# Altium schematic symbol library Schlib.SchLib: 17 symbols
Pins are listed as number, name and electrical type; pins without a type are passive.

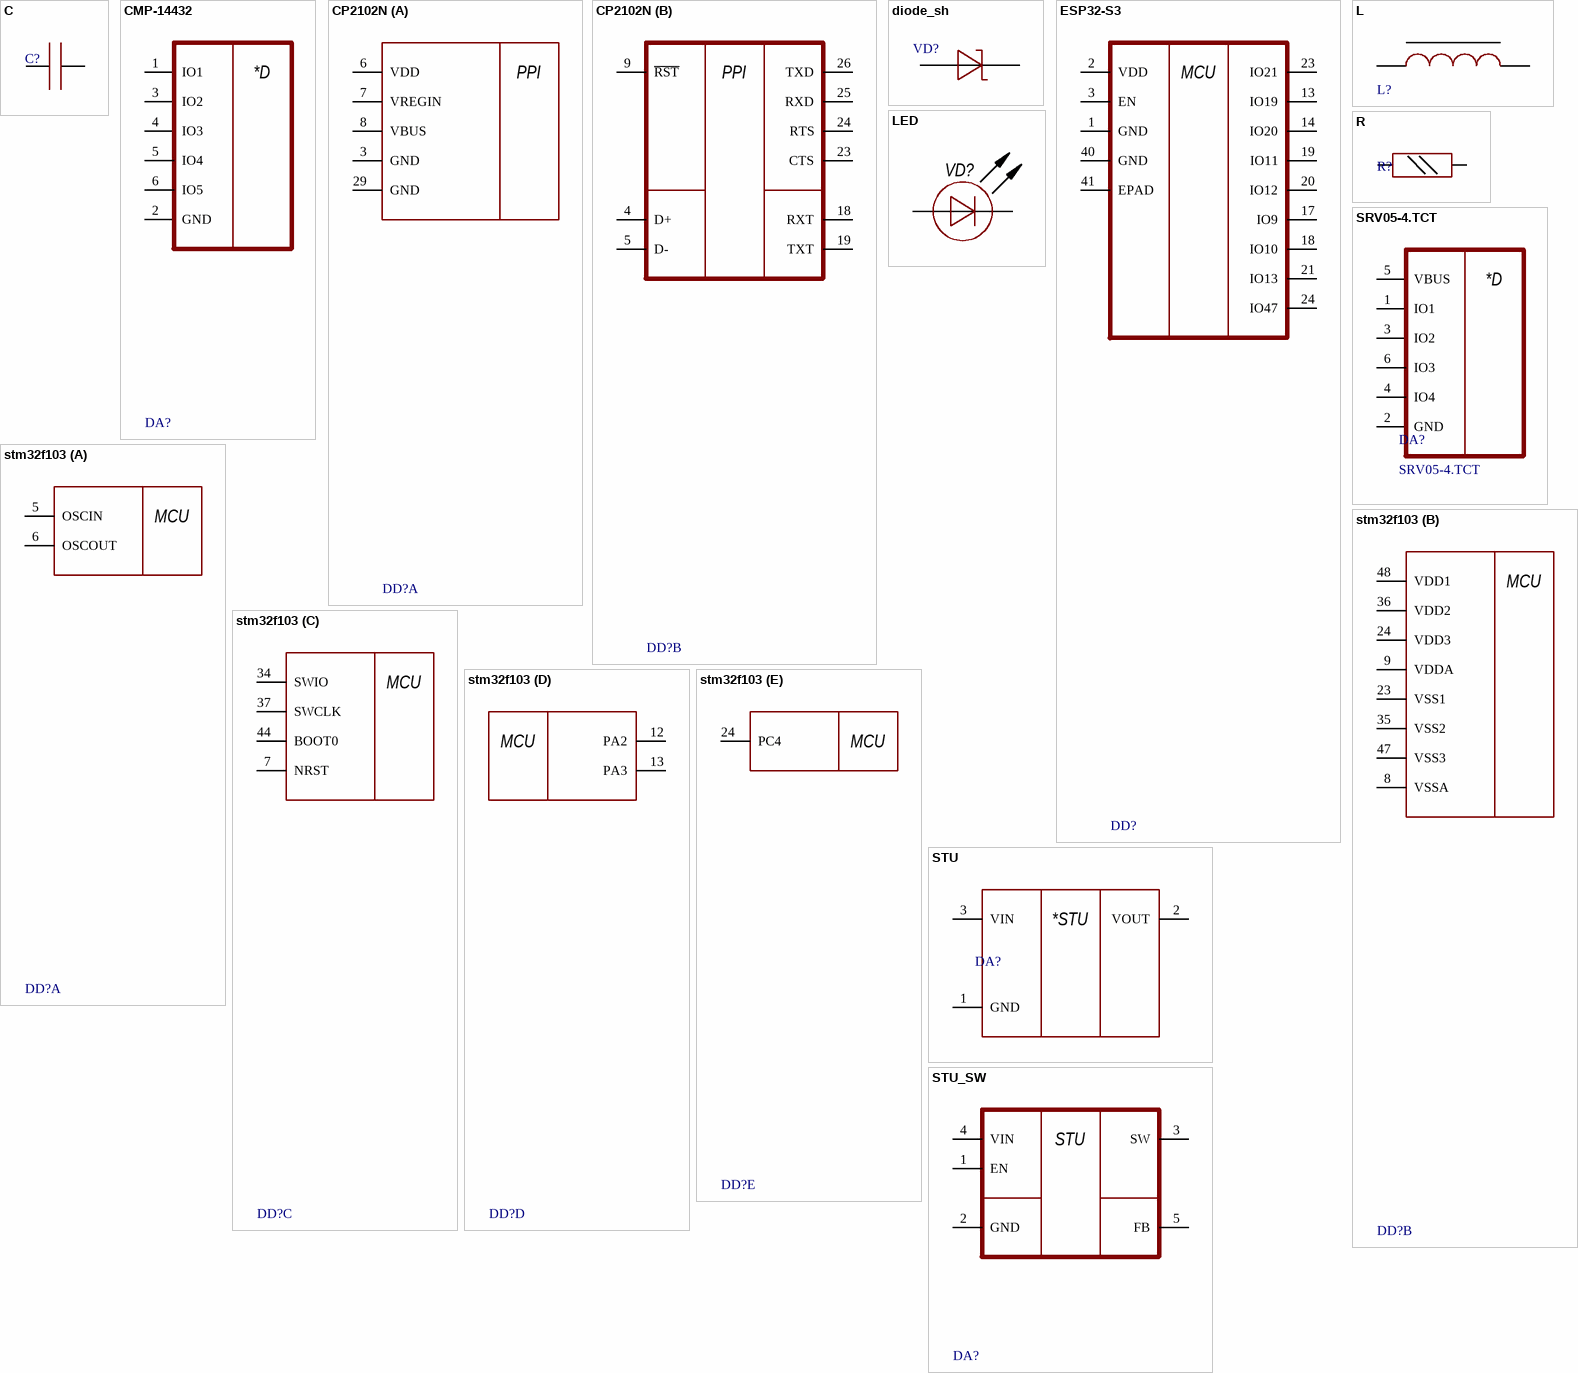
[diagram p0: symbols C to STU_SW]

## C
designator C?, comment 04023J0R9BBWTR  (value not drawn)
Manufacturer: AVX Interconnect / Elco; Part Number: 04023J0R9BBWTR
footprint CAP: 0603
pins: 1, 2
1 alternate drawing of the same symbol

## CMP-14432
designator DA?, comment PESD3V3L5UY,115  (value not drawn)
TVS DIODE 3.3VWM 12VC 6TSSOP; RoHS Compliant: Yes
footprint SOT23-6 (pitch 0.95 mm)
pins: 1 IO1 "VBUS", 2 GND, 3 IO2, 4 IO3, 5 IO4, 6 IO5
text: *D

## CP2102N
designator DD?, comment CP2102N-A02-GQFN28R  (value not drawn)
IC USB TO UART BRIDGE QFN28
footprint FP-CP2102N-A02-GQFN28R-IPC_C
footprint FP-CP2102N-A02-GQFN28R-IPC_B
footprint FP-CP2102N-A02-GQFN28R-IPC_A
part A pins: 3 GND (power), 6 VDD (power), 7 VREGIN (power), 8 VBUS (power), 29 GND (power)
part B pins: 4 D+ (power), 5 D- (power), 9 ~{RST} (power), 18 RXT (power), 19 TXT (power), 23 CTS (power), 24 RTS (power), 25 RXD (power), 26 TXD (power)
part A text: PPI
part B text: PPI

## diode_sh
designator VD?  (value not drawn)
footprint DIODE: SOD123
pins: 1 A, 2 C

## ESP32-S3
designator DD?, comment ESP32-WROOM-32U (16MB)  (value not drawn)
RX TXRX MODULE WIFI U.FL SMD; Sensitivity: -98dBm; Frequency: 2.5GHz; Memory Size: 536KB; Data Rate: 150Mbps; Interface: I2C; Packaging: Tape and Reel; Case/Package: SMD/SMT; Max Operating Temperature: 85°C; Mount: Surface Mount; Min Operating Temperature: -40°C
footprint XCVR_ESP32S3WROOM1N8R8
footprint XCVR_ESP32-S3-WROOM-1U-N8
pins: 1 GND (power), 2 VDD (power), 3 EN (power), 13 IO19, 14 IO20, 17 IO9, 18 IO10, 19 IO11, 20 IO12, 21 IO13, 23 IO21, 24 IO47, 40 GND (power), 41 EPAD (power)
text: MCU

## L
designator L?, comment IHLP2020CZER2R2M01  (value not drawn)
Fixed Inductors Commercial High Saturation Series 2.2uH 5.8A 29.2mΩ 20%; DC Resistance (DCR): 29.2mR; Test Frequency: 100kHz; Core Material: Metal; Self Resonant Frequency: 39MHz; Shielding: Shielded; Max DC Current: 10A; Radiation Hardening: No; Height: 3mm; Tolerance: 20%; Package Quantity: 2000; Weight: 0.007055oz; Contact Plating: Tin; Termination: SMD/SMT; Height - Seated (Max): 0.118inch; Inductance Tolerance: 20%; RMS Current (Irms): 5.8A; Lead Free: Lead Free; Width: 0.204inch; Min Operating Temperature: -55°C; Length: 5.74mm; Max Operating Temperature: 125°C; Saturation Current: 10A; Inductance: 2.2uH; Depth: 5.43mm; Current Rating: 5.8A; Case/Package: 2020; Mount: Surface Mount; Packaging: Tape and Reel; Military Standard: Not
footprint FP-IHLP-2020CZ-FP_1_905x2-MFG
pins: 1, 2

## LED
designator VD?
ValueManufacturerPartNumber: LED, Green, *, *, *, -55...+150°C; TypeDiode: LED; ColorParameter: Green; Manufacturer: *; Package: *; HelpURL: *; Temperature: -55...+150°C; Current: *; VoltageDrop: *; PartNumber: *; Color: GREEN
footprint LED: 0603B
footprint LED: 0603G
footprint LED: 0603R
footprint LED: 0603Y
pins: 1 A, 2 C

## R
designator R?, comment RC0402FR-074K7L  (value not drawn)
Manufacturer: Yageo / Phycomp; Part Number: RC0402FR-074K7L
footprint RES: 0603
pins: 1, 2
1 alternate drawing of the same symbol

## SRV05-4.TCT
designator DA?
RailClamp(R) Low Capacitance TVS Diode Array, 5 pF, 17.5 VC, -55 to 125 degC, 6-Pin SOT23, RoHS, Tape and Reel; Manufacturer: Semtech; Leakage Current (Max): 5uA; Polarity: Uni-Directional; Peak Pulse Power Dissipation: 300W; Clamping Voltage: 17.5V; Number of Elements: 1; Working Voltage: 5V; Test Current (It): 1mA; Configuration: Quad; Reverse Breakdown Voltage: 6V; Suppressor Type: DiodeArrays; Peak Pulse Current: 12A; Product Depth (mm): 1.6mm; Product Height (mm): 1.15mm; Clamping Voltage (Max): 12.5V; Rad Hardened: No; Product Length (mm): 2.9mm; Capacitance Value: 5pF; Mounting: SurfaceMount; Datasheet URL: https://datasheet.ciiva.com/8029/srv05-4-8029973.pdf; Datasheet Version: Jan-08; Packaging: TapeandReel; Package / Case: SOT-23; Operating Temp Range: -55Cto125C; Pin Count: 6; Direction Type: Uni-Directional; Operating Temperature Min Deg. C: -55C; Reverse Stand-off Voltage: 5V; Leakage Current: 5uA; Manufacturer URL: http://www.semtech.com/; Working Voltage (Max): 5V; Package Reference: SOT23-6; Package Description: 6-Pin Small Outline Transistor, Body 2.9 x 1.6 mm, Pitch 0.95 mm; Operating Temperature Max Deg. C: 125C; Operating Temperature Classification: Military; Mounting Style: SurfaceMount
footprint SOT23-6 (pitch 0.95 mm)
pins: 1 IO1, 2 GND, 3 IO2, 4 IO4, 5 VBUS, 6 IO3
text: *D

## stm32f103
designator DD?, comment stm32f103rb  (value not drawn)
RX TXRX MODULE WIFI U.FL SMD; Sensitivity: -98dBm; Frequency: 2.5GHz; Memory Size: 536KB; Data Rate: 150Mbps; Interface: I2C; Packaging: Tape and Reel; Case/Package: SMD/SMT; Max Operating Temperature: 85°C; Mount: Surface Mount; Min Operating Temperature: -40°C
part A pins: 5 OSCIN (power), 6 OSCOUT (power)
part B pins: 8 VSSA (power), 9 VDDA (power), 23 VSS1 (power), 24 VDD3 (power), 35 VSS2 (power), 36 VDD2 (power), 47 VSS3 (power), 48 VDD1 (power)
part C pins: 7 NRST (power), 34 SWIO (power), 37 SWCLK (power), 44 BOOT0 (power)
part D pins: 12 PA2 (power), 13 PA3 (power)
part E pins: 24 PC4 (power)
part A text: MCU
part B text: MCU
part C text: MCU
part D text: MCU
part E text: MCU

## STU
designator DA?, comment XC6219B332MR  (value not drawn)
LDO Voltage Regulators 1A, 3.3V
footprint FP-ams1117-IPC_A
footprint FP-ams1117-IPC_B
footprint FP-ams1117-IPC_C
pins: 1 GND (power), 2 VOUT, 3 VIN (power)
text: *STU

## STU_SW
designator DA?, comment TLV62569DBVR  (value not drawn)
IC REG BUCK ADJ 2A SOT23-5; Output Configuration: Positive; Min Output Voltage: 600mV; Max Output Voltage: 5.5V; Switching Frequency: 1.5MHz; Output Type: Adjustable; Synchronous Rectifier: Yes; Min Input Voltage: 2.5V; Output Current: 2A; Mount: Surface Mount; Min Operating Temperature: -40°C; Max Operating Temperature: 125°C; RoHS Compliant: Yes; Max Input Voltage: 5.5V; Case/Package: SOT-23-5; Packaging: Cut Tape
footprint SOT23-5 (pitch 0.95 mm)
pins: 1 EN (power), 2 GND (power), 3 SW, 4 VIN (power), 5 FB
text: STU

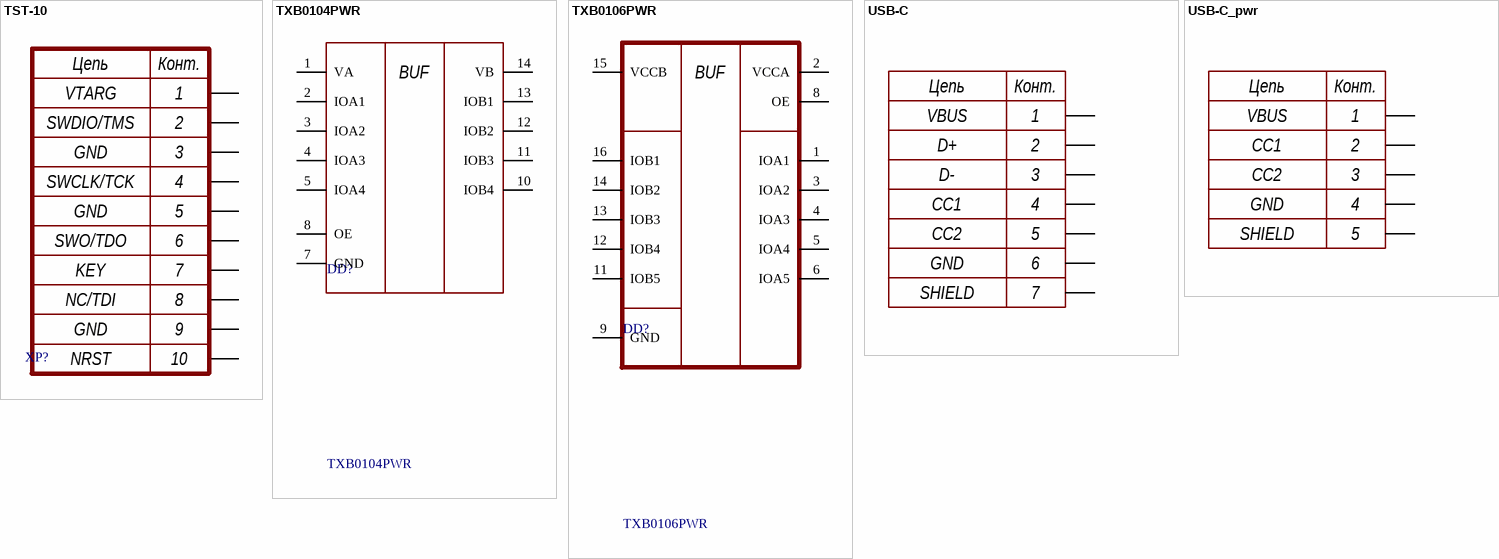
[diagram p1: symbols TST-10 to USB-C_pwr]

## TST-10
designator XP?, comment TST  (value not drawn)
footprint SAMTEC-TST-105-01-X-D
footprint FP-TSM-105-01-F-DV-MFG
pins: 1, 2, 3, 4, 5, 6, 7, 8, 9, 10
text: Цепь; Конт.; VTARG; SWDIO/TMS; GND; SWCLK/TCK; SWO/TDO; KEY; NC/TDI; NRST

## TXB0104PWR
designator DD?
NexarPartId: 1486292; Manufacturer Lifecycle Status: ACTIVE; Quiescent Current: 3.5µA; Number of Circuits: 1; Logic Function: Translator; Number of Bits: 4; Max Supply Voltage: 5.5V; Low Level Output Current: 20µA; Data Rate: 100Mbps; Nominal Supply Current: 5µA; Turn-On Delay Time: 31ns; Propagation Delay: 4ns; High Level Output Current: -20µA; Min Supply Voltage: 1.2V; Rise Time: 700ps; Max Junction Temperature (Tj): 150°C; Number of Outputs: 4; Ambient Temperature Range High: 85°C; Width: 4.4mm; Height: 1.2mm; Radiation Hardening: No; Case/Package: TSSOP; Number of Inputs: 4; Packaging: Digi-Reel®; RoHS: Compliant; Weight: 57.209338mg; Length: 5mm; REACH SVHC: No SVHC; Min Supply Voltage (DC): 1.2V; Min Operating Temperature: -40°C; Number of Channels: 4; Number of Pins: 14; Schedule B: 8542390000, 8542390000; Max Operating Temperature: 85°C; Output Current: 20µA; Thickness: 1mm; Lead Free: Lead Free; Lifecycle Status: Production; Mount: Surface Mount
footprint 14-TSOP
pins: 1 VA (power), 2 IOA1 (power), 3 IOA2 (power), 4 IOA3 (power), 5 IOA4 (power), 7 GND (power), 8 OE (power), 10 IOB4 (power), 11 IOB3 (power), 12 IOB2 (power), 13 IOB1 (power), 14 VB (power)
text: BUF

## TXB0106PWR
designator DD?
Manufacturer Lifecycle Status: ACTIVE; NexarPartId: 9437508; Quiescent Current: 3.5µA; Number of Channels: 6; Data Rate: 100Mbps; Max Supply Voltage: 5.5V; Logic Function: Translator; Number of Circuits: 1; Min Supply Voltage (DC): 1.2V; Low Level Output Current: 20µA; Max Junction Temperature (Tj): 150°C; High Level Output Current: -20µA; Propagation Delay: 4ns; Turn-On Delay Time: 9.5ns; Termination: SMD/SMT; Lead Free: Lead Free; Packaging: Cut Tape (CT); Length: 5mm; Mount: Surface Mount; Number of Pins: 16; Number of Inputs: 6; Weight: 61.887009mg; Number of Transceivers: 6; Radiation Hardening: No; Number of Outputs: 6; Max Operating Temperature: 85°C; RoHS: Compliant; Height: 1.2mm; Number of Bits: 6; Ambient Temperature Range High: 85°C; REACH SVHC: No SVHC; Min Supply Voltage: 1.2V; Output Current: 20µA; Case/Package: TSSOP; Lifecycle Status: Production; Width: 4.4mm; Thickness: 1mm; Schedule B: 8542390000, 8542390000; Contact Plating: Gold; Min Operating Temperature: -40°C
footprint 16-SSOP (pitch 0.635 mm)
pins: 1 IOA1 (power), 2 VCCA (power), 3 IOA2 (power), 4 IOA3 (power), 5 IOA4 (power), 6 IOA5 (power), 8 OE (power), 9 GND (power), 11 IOB5 (power), 12 IOB4 (power), 13 IOB3 (power), 14 IOB2 (power), 15 VCCB (power), 16 IOB1 (power)
text: BUF

## USB-C
designator XS?, comment 12401610E4#2A  (value not drawn)
CONN RCP USB3.1 TYPEC 24P SMD RA; Connector Type: USB; Number of Contacts: 24; Gender: Receptacle; Packaging: Cut Tape; Mount: Surface Mount; Number of Pins: 24
footprint FP-12401610E4#2A-MFG
footprint FP-USB4110-GF-A-MFG
pins: CC1 GND, CC2 SHLD, D+, D-, GND, SHLD, VBUS
text: Цепь; Конт.; 1; 2; 3; 4; 5; 6; SHIELD; 7

## USB-C_pwr
designator XS?, comment 12401610E4#2A  (value not drawn)
CONN RCP USB3.1 TYPEC 24P SMD RA; Connector Type: USB; Number of Contacts: 24; Gender: Receptacle; Packaging: Cut Tape; Mount: Surface Mount; Number of Pins: 24
footprint FP-12401610E4#2A-MFG
footprint FP-USB4110-GF-A-MFG
pins: CC1 GND, CC2 SHLD, GND, SHLD, VBUS
text: Цепь; Конт.; 1; 2; 3; 4; SHIELD; 5